# Altium footprint library SON80P400X400X60-9N.PcbLib: 1 footprints
Each footprint in its own frame and in the unit in brackets; x right, y up, seen from the top. Pads: shape width x height; smd on the part's side, far side on the other; paste and mask are expansions set on the pad; w line width, h text height; cw(c..) or ccw(c..) is an arc to the next point about the centre after c.
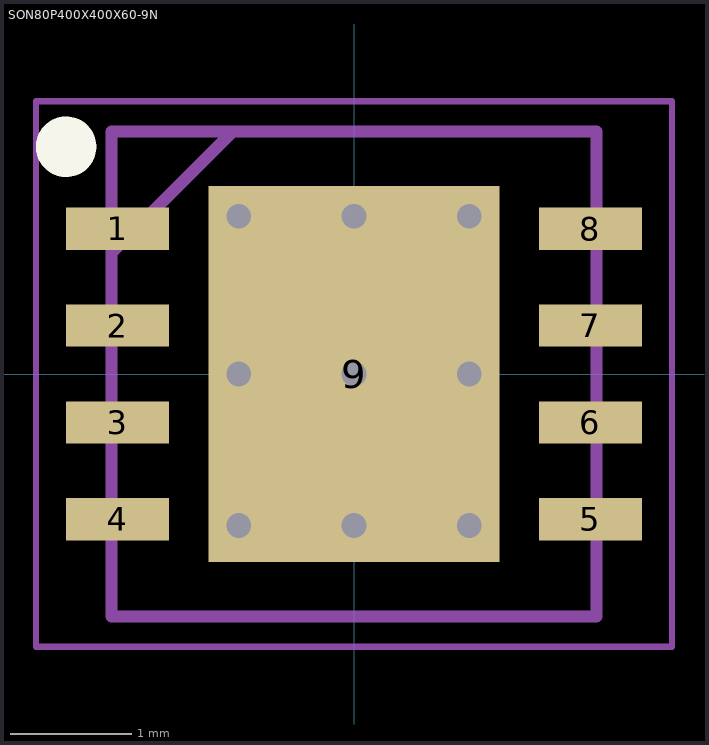
[diagram p0: the footprint, top view; thin cyan lines are the x and y axes]

## SON80P400X400X60-9N [mm]
pads (9):
  rect 0.85x0.35 smd: 1(-1.95,1.2) 2(-1.95,0.4) 3(-1.95,-0.4) 4(-1.95,-1.2) 5(1.95,-1.2) 6(1.95,-0.4) 7(1.95,0.4) 8(1.95,1.2)
  rect 2.4x3.1 smd: 9(0,0)
via 0.95,1.3 diameter 0.406 hole 0.203
via -0.95,1.3 diameter 0.406 hole 0.203
via 0.95,-1.25 diameter 0.406 hole 0.203
via 0,-1.25 diameter 0.406 hole 0.203
via -0.95,-1.25 diameter 0.406 hole 0.203
via -0.95,0 diameter 0.406 hole 0.203
via 0.95,0 diameter 0.406 hole 0.203
via 0,1.3 diameter 0.406 hole 0.203
via 0,0 diameter 0.406 hole 0.203
L26-Silk Screen Top (Multiple PADS layers...):
  circle w0.25: c-2.375,1.875 r0.125
L15 (Multiple PADS layers...):
  lines w0.1: -2,1 -1,2 ; -2,-2 2,-2 2,2 -2,2 -2,-2
L20:
  lines w0.05: -2.625,-2.25 2.625,-2.25 2.625,2.25 -2.625,2.25 -2.625,-2.25
3D body "S25FL064LABNFI043.stp": height 0.6, standoff 0, extent -2.05,-2 2.05,2